# Altium integrated library Linear Technology Power Management Battery Management.IntLib: 626 symbols (part 37 of 56)
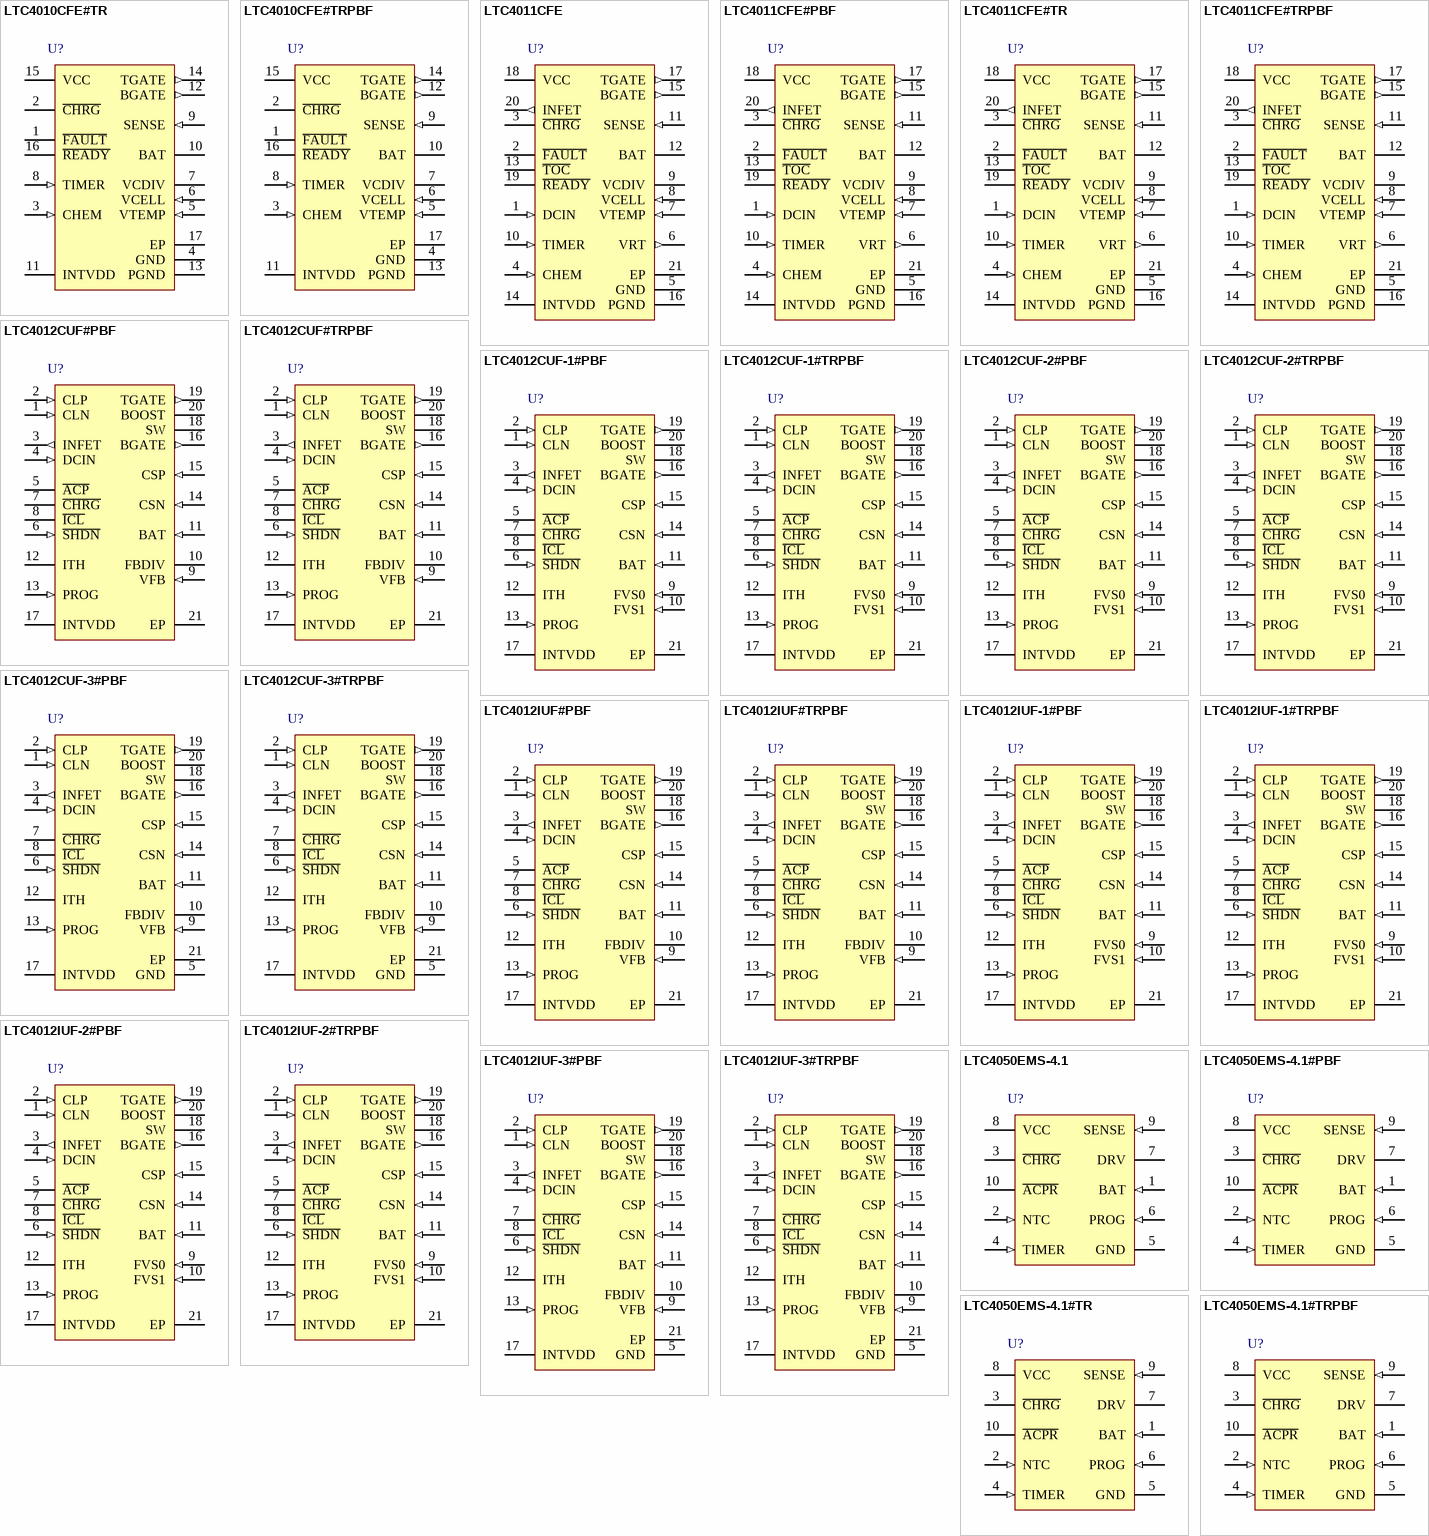
[diagram p58: symbols LTC4010CFE#TR to LTC4050EMS-4.1#TRPBF]

## LTC4012IUF#TRPBF
designator U?
High Efficiency, Multi-Chemistry Battery Charger with PowerPath Control, 6 to 28 V Vin, 20-pin QFN (UF-20), -40 to 125 degC, Pb-Free, Tape and Reel; Manufacturer: Linear Technology; PartNumber: LTC4012IUF#TRPBF; Battery Chemistry: Li-Ion, Li-Polymer, LiFePO4, NiCd, NiMH, Lead Acid; Charge Termination: Microcontroller; Float Voltage: Adj; Max Charge Current(A): 12; Number of Cells: 1 to 6 (Li), 2 to 18 (Ni); Type of Charger: Switching; Vin Max(V): 28; Vin Min(V): 6; DatasheetVersion: Rev. A; PackageVersion: Rev. A, 10/2010; PackageReference: UF20; PackageDescription: 20-Pin Plastic QFN, Body 4 x 4 mm, Pitch 0.5 mm; Supplier 1: Digi-Key; Supplier Part Number 1: LTC4012IUF#TRPBF-ND; Packing: Tape and Reel; RoHS: TRUE; Mounting Technology: Surface Mount; Code_JEDEC: MO-220; ComponentLink1Description: Manufacturer URL; ComponentLink1URL: http://www.linear.com/; ComponentLink2Description: Datasheet; ComponentLink2URL: http://cds.linear.com/docs/en/datasheet/4012fa.pdf; ComponentLink3Description: Package Specification; ComponentLink3URL: http://cds.linear.com/docs/en/packaging/QFN_20_05-08-1710.pdf
footprint LT-UF-20_N (QFN, 20-Leads, Body 4.1x4.1mm, Pitch 0.5mm, Thermal Pad 2.45x2.45mm, IPC Medium Density)
footprint LT-UF-20_L (QFN, 20-Leads, Body 4.1x4.1mm, Pitch 0.5mm, Thermal Pad 2.45x2.45mm, IPC High Density)
footprint LT-UF-20_M (QFN, 20-Leads, Body 4.1x4.1mm, Pitch 0.5mm, Thermal Pad 2.45x2.45mm, IPC Low Density)
pins: 1 CLN (in) "Adapter Input Current Limit Negative Input. The LTC4012 senses voltage on this pin to determine if less charge current should be sourced to limit total input current. The threshold is set 100mV below the CLP pin. An external (See Datasheet)", 2 CLP (in) "Adapter Input Current Limit Positive Input. The LTC4012 also draws power from this pin, including a small amount for some shutdown functions. Operating voltage range is GND to 28V.", 3 INFET (out) "PowerPath Control Output. This output drives the gate of a PMOS pass transistor connected between the DC input (DCIN) and the raw system supply rail (CLP) to maintain a forward voltage of 25mV when a DC input source is (See Datasheet)", 4 DCIN (in) "DC Sense Input. One of two voltage sense inputs to the internal PowerPath controller (the other input to the controller is CLP). This input is usually supplied from an input DC power source. Operating voltage ranges from GND (See Datasheet)", 5 ~{ACP} (hiz) "Active-Low AC Adapter Present Indicator Output. This open-drain output pulls to GND when adequate AC adapter (DCIN) voltage is present. This output should be left floating if not used.", 6 ~{SHDN} (in) "Active-low Shutdown Input. Driving S\H\D\N\ below 300mV unconditionally forces the LTC4012 into the shutdown state. This input has a 40kohm internal pulldown to GND. Operating voltage range is GND to INTVDD.", 7 ~{CHRG} (hiz) "Active-Low Charge Indicator Output. This open-drain output provides three levels of information about charge status using a strong pull-down, 25uA weak pull-down or high impedance. Refer to the Operation and Applications (See Datasheet)", 8 ~{ICL} (oc) "Active-Low Input Current Limit Indicator Output. This open-drain output pulls to GND when the charge current is reduced because of AC adapter input current limiting. This output should be left floating if not used.", 9 VFB (in) "Battery Voltage Feedback Input. An external resistor divider between FBDIV and GND with the center tap connected to VFB programs the charger output voltage. In constant voltage mode, this pin is nominally at 1.2085V. Refer (See Datasheet)", 10 FBDIV (oc) "Battery Voltage Feedback Resistor Divider Source. The LTC4012 connects this pin to BAT when charging is in progress. FBDIV is an opendrain PFET output to BAT with an operating voltage range of GND to BAT.", 11 BAT (in) "Battery Pack Connection. The LTC4012 uses the voltage on this pin to control PWM operation when charging. Operating voltage range is GND to CLN.", 12 ITH "PWM Control Voltage and Compensation Node. The LTC4012 develops a voltage on this pin to control cycle-by-cycle peak inductor current. An external R-C network connected to ITH provides PWM loop compensation. Refer to the (See Datasheet)", 13 PROG (in) "Charge Current Programming and Monitoring Pin. An external resistance connected between PROG and GND, along with the current sense and PWM input resistors, programs the maximum charge current. The voltage on this pin can (See Datasheet)", 14 CSN (in) "Charge Current Sense Negative Input. Place an external input resistor (RIN, Figure 1) between this pin and the negative side of the charge current sense resistor. Operating voltage ranges from (BAT - 50mV) to (BAT + 200mV).", 15 CSP (in) "Charge Current Sense Positive Input. Place an external input resistor (RIN, Figure 1) between this pin and the positive side of the charge current sense resistor. Operating voltage ranges from (BAT - 50mV) to (BAT + 200mV).", 16 BGATE (out) "External Synchronous NFET Gate Control Output. This output provides gate drive to an external NMOS power transistor switch used for synchronous rectification to increase efficiency in the step-down DC/DC converter. Operating (See Datasheet)", 17 INTVDD (power) "Internal 5V Regulator Output. This pin provides a means of bypassing the internal 5V regulator used to power the LTC4012 PWM FET drivers. This supply shuts down when the LTC4012 shuts down. Refer to the Application (See Datasheet)", 18 SW "PWM Switch Node. The LTC4012 uses the voltage on this pin as the source reference for its topside NFET (PWM switch) driver. Refer to the Applications Information section for additional PCB layout suggestions related to this (See Datasheet)", 19 TGATE (out) "External NFET Switch Gate Control Output. This output provides gate drive to an external NMOS power transistor switch used in the DC/DC converter. Operating voltage range is GND to (CLN + 5V).", 20 BOOST "TGATE Driver Supply Input. A bootstrap capacitor is returned to this pin from a charge network connected to SW and INTVDD. Refer to the Applications Information section for complete details on circuit topology and component (See Datasheet)", 21 EP (power) "Ground. The package paddle provides a single-point ground for the internal voltage reference and other critical LTC4012 circuits. It must be soldered to a suitable PCB copper ground pad for proper electrical operation and to (See Datasheet)"

## LTC4012IUF-1#PBF
designator U?
High Efficiency, Multi-Chemistry Battery Charger with PowerPath Control, 6 to 28 V Vin, 20-pin QFN (UF-20), -40 to 125 degC, Pb-Free; Manufacturer: Linear Technology; PartNumber: LTC4012IUF-1#PBF; Battery Chemistry: Li-Ion, Li-Polymer; Charge Termination: Microcontroller; Float Voltage: 4.1 V; Max Charge Current(A): 12; Number of Cells: 1 to 4 (Li); Type of Charger: Switching; Vin Max(V): 28; Vin Min(V): 6; DatasheetVersion: Rev. A; PackageVersion: Rev. A, 10/2010; PackageReference: UF20; PackageDescription: 20-Pin Plastic QFN, Body 4 x 4 mm, Pitch 0.5 mm; Supplier 1: Digi-Key; Supplier Part Number 1: LTC4012IUF-1#PBF-ND; Supplier 2: Newark; Supplier Part Number 2: 71R4688; RoHS: TRUE; Mounting Technology: Surface Mount; Code_JEDEC: MO-220; ComponentLink1Description: Manufacturer URL; ComponentLink1URL: http://www.linear.com/; ComponentLink2Description: Datasheet; ComponentLink2URL: http://cds.linear.com/docs/en/datasheet/4012fa.pdf; ComponentLink3Description: Package Specification; ComponentLink3URL: http://cds.linear.com/docs/en/packaging/QFN_20_05-08-1710.pdf
footprint LT-UF-20_N (QFN, 20-Leads, Body 4.1x4.1mm, Pitch 0.5mm, Thermal Pad 2.45x2.45mm, IPC Medium Density)
footprint LT-UF-20_L (QFN, 20-Leads, Body 4.1x4.1mm, Pitch 0.5mm, Thermal Pad 2.45x2.45mm, IPC High Density)
footprint LT-UF-20_M (QFN, 20-Leads, Body 4.1x4.1mm, Pitch 0.5mm, Thermal Pad 2.45x2.45mm, IPC Low Density)
pins: 1 CLN (in) "Adapter Input Current Limit Negative Input. The LTC4012 senses voltage on this pin to determine if less charge current should be sourced to limit total input current. The threshold is set 100mV below the CLP pin. An external (See Datasheet)", 2 CLP (in) "Adapter Input Current Limit Positive Input. The LTC4012 also draws power from this pin, including a small amount for some shutdown functions. Operating voltage range is GND to 28V.", 3 INFET (out) "PowerPath Control Output. This output drives the gate of a PMOS pass transistor connected between the DC input (DCIN) and the raw system supply rail (CLP) to maintain a forward voltage of 25mV when a DC input source is (See Datasheet)", 4 DCIN (in) "DC Sense Input. One of two voltage sense inputs to the internal PowerPath controller (the other input to the controller is CLP). This input is usually supplied from an input DC power source. Operating voltage ranges from GND (See Datasheet)", 5 ~{ACP} (hiz) "Active-Low AC Adapter Present Indicator Output. This open-drain output pulls to GND when adequate AC adapter (DCIN) voltage is present. This output should be left floating if not used.", 6 ~{SHDN} (in) "Active-low Shutdown Input. Driving S\H\D\N\ below 300mV unconditionally forces the LTC4012 into the shutdown state. This input has a 40kohm internal pulldown to GND. Operating voltage range is GND to INTVDD.", 7 ~{CHRG} (hiz) "Active-Low Charge Indicator Output. This open-drain output provides three levels of information about charge status using a strong pull-down, 25uA weak pull-down or high impedance. Refer to the Operation and Applications (See Datasheet)", 8 ~{ICL} (oc) "Active-Low Input Current Limit Indicator Output. This open-drain output pulls to GND when the charge current is reduced because of AC adapter input current limiting. This output should be left floating if not used.", 9 FVS0 (in) "Battery Voltage Select Input (LSB). This pin is one of two pins used on the LTC4012-1 or LTC4012-2 to select one of four preset battery voltages. Selection is done by connecting to either GND or INTVDD. Operating voltage (See Datasheet)", 10 FVS1 (in) "Battery Voltage Select Input (MSB). This pin is one of two pins used on the LTC4012-1 or LTC4012-2 to select one of four preset battery voltages. Selection is done by connecting to either GND or INTVDD. Operating voltage (See Datasheet)", 11 BAT (in) "Battery Pack Connection. The LTC4012 uses the voltage on this pin to control PWM operation when charging. Operating voltage range is GND to CLN.", 12 ITH "PWM Control Voltage and Compensation Node. The LTC4012 develops a voltage on this pin to control cycle-by-cycle peak inductor current. An external R-C network connected to ITH provides PWM loop compensation. Refer to the (See Datasheet)", 13 PROG (in) "Charge Current Programming and Monitoring Pin. An external resistance connected between PROG and GND, along with the current sense and PWM input resistors, programs the maximum charge current. The voltage on this pin can (See Datasheet)", 14 CSN (in) "Charge Current Sense Negative Input. Place an external input resistor (RIN, Figure 1) between this pin and the negative side of the charge current sense resistor. Operating voltage ranges from (BAT - 50mV) to (BAT + 200mV).", 15 CSP (in) "Charge Current Sense Positive Input. Place an external input resistor (RIN, Figure 1) between this pin and the positive side of the charge current sense resistor. Operating voltage ranges from (BAT - 50mV) to (BAT + 200mV).", 16 BGATE (out) "External Synchronous NFET Gate Control Output. This output provides gate drive to an external NMOS power transistor switch used for synchronous rectification to increase efficiency in the step-down DC/DC converter. Operating (See Datasheet)", 17 INTVDD (power) "Internal 5V Regulator Output. This pin provides a means of bypassing the internal 5V regulator used to power the LTC4012 PWM FET drivers. This supply shuts down when the LTC4012 shuts down. Refer to the Application (See Datasheet)", 18 SW "PWM Switch Node. The LTC4012 uses the voltage on this pin as the source reference for its topside NFET (PWM switch) driver. Refer to the Applications Information section for additional PCB layout suggestions related to this (See Datasheet)", 19 TGATE (out) "External NFET Switch Gate Control Output. This output provides gate drive to an external NMOS power transistor switch used in the DC/DC converter. Operating voltage range is GND to (CLN + 5V).", 20 BOOST "TGATE Driver Supply Input. A bootstrap capacitor is returned to this pin from a charge network connected to SW and INTVDD. Refer to the Applications Information section for complete details on circuit topology and component (See Datasheet)", 21 EP (power) "Ground. The package paddle provides a single-point ground for the internal voltage reference and other critical LTC4012 circuits. It must be soldered to a suitable PCB copper ground pad for proper electrical operation and to (See Datasheet)"

## LTC4012IUF-1#TRPBF
designator U?
High Efficiency, Multi-Chemistry Battery Charger with PowerPath Control, 6 to 28 V Vin, 20-pin QFN (UF-20), -40 to 125 degC, Pb-Free, Tape and Reel; Manufacturer: Linear Technology; PartNumber: LTC4012IUF-1#TRPBF; Battery Chemistry: Li-Ion, Li-Polymer; Charge Termination: Microcontroller; Float Voltage: 4.1 V; Max Charge Current(A): 12; Number of Cells: 1 to 4 (Li); Type of Charger: Switching; Vin Max(V): 28; Vin Min(V): 6; DatasheetVersion: Rev. A; PackageVersion: Rev. A, 10/2010; PackageReference: UF20; PackageDescription: 20-Pin Plastic QFN, Body 4 x 4 mm, Pitch 0.5 mm; Supplier 1: Digi-Key; Supplier Part Number 1: LTC4012IUF-1#TRPBF-ND; Packing: Tape and Reel; RoHS: TRUE; Mounting Technology: Surface Mount; Code_JEDEC: MO-220; ComponentLink1Description: Manufacturer URL; ComponentLink1URL: http://www.linear.com/; ComponentLink2Description: Datasheet; ComponentLink2URL: http://cds.linear.com/docs/en/datasheet/4012fa.pdf; ComponentLink3Description: Package Specification; ComponentLink3URL: http://cds.linear.com/docs/en/packaging/QFN_20_05-08-1710.pdf
footprint LT-UF-20_N (QFN, 20-Leads, Body 4.1x4.1mm, Pitch 0.5mm, Thermal Pad 2.45x2.45mm, IPC Medium Density)
footprint LT-UF-20_L (QFN, 20-Leads, Body 4.1x4.1mm, Pitch 0.5mm, Thermal Pad 2.45x2.45mm, IPC High Density)
footprint LT-UF-20_M (QFN, 20-Leads, Body 4.1x4.1mm, Pitch 0.5mm, Thermal Pad 2.45x2.45mm, IPC Low Density)
pins: 1 CLN (in) "Adapter Input Current Limit Negative Input. The LTC4012 senses voltage on this pin to determine if less charge current should be sourced to limit total input current. The threshold is set 100mV below the CLP pin. An external (See Datasheet)", 2 CLP (in) "Adapter Input Current Limit Positive Input. The LTC4012 also draws power from this pin, including a small amount for some shutdown functions. Operating voltage range is GND to 28V.", 3 INFET (out) "PowerPath Control Output. This output drives the gate of a PMOS pass transistor connected between the DC input (DCIN) and the raw system supply rail (CLP) to maintain a forward voltage of 25mV when a DC input source is (See Datasheet)", 4 DCIN (in) "DC Sense Input. One of two voltage sense inputs to the internal PowerPath controller (the other input to the controller is CLP). This input is usually supplied from an input DC power source. Operating voltage ranges from GND (See Datasheet)", 5 ~{ACP} (hiz) "Active-Low AC Adapter Present Indicator Output. This open-drain output pulls to GND when adequate AC adapter (DCIN) voltage is present. This output should be left floating if not used.", 6 ~{SHDN} (in) "Active-low Shutdown Input. Driving S\H\D\N\ below 300mV unconditionally forces the LTC4012 into the shutdown state. This input has a 40kohm internal pulldown to GND. Operating voltage range is GND to INTVDD.", 7 ~{CHRG} (hiz) "Active-Low Charge Indicator Output. This open-drain output provides three levels of information about charge status using a strong pull-down, 25uA weak pull-down or high impedance. Refer to the Operation and Applications (See Datasheet)", 8 ~{ICL} (oc) "Active-Low Input Current Limit Indicator Output. This open-drain output pulls to GND when the charge current is reduced because of AC adapter input current limiting. This output should be left floating if not used.", 9 FVS0 (in) "Battery Voltage Select Input (LSB). This pin is one of two pins used on the LTC4012-1 or LTC4012-2 to select one of four preset battery voltages. Selection is done by connecting to either GND or INTVDD. Operating voltage (See Datasheet)", 10 FVS1 (in) "Battery Voltage Select Input (MSB). This pin is one of two pins used on the LTC4012-1 or LTC4012-2 to select one of four preset battery voltages. Selection is done by connecting to either GND or INTVDD. Operating voltage (See Datasheet)", 11 BAT (in) "Battery Pack Connection. The LTC4012 uses the voltage on this pin to control PWM operation when charging. Operating voltage range is GND to CLN.", 12 ITH "PWM Control Voltage and Compensation Node. The LTC4012 develops a voltage on this pin to control cycle-by-cycle peak inductor current. An external R-C network connected to ITH provides PWM loop compensation. Refer to the (See Datasheet)", 13 PROG (in) "Charge Current Programming and Monitoring Pin. An external resistance connected between PROG and GND, along with the current sense and PWM input resistors, programs the maximum charge current. The voltage on this pin can (See Datasheet)", 14 CSN (in) "Charge Current Sense Negative Input. Place an external input resistor (RIN, Figure 1) between this pin and the negative side of the charge current sense resistor. Operating voltage ranges from (BAT - 50mV) to (BAT + 200mV).", 15 CSP (in) "Charge Current Sense Positive Input. Place an external input resistor (RIN, Figure 1) between this pin and the positive side of the charge current sense resistor. Operating voltage ranges from (BAT - 50mV) to (BAT + 200mV).", 16 BGATE (out) "External Synchronous NFET Gate Control Output. This output provides gate drive to an external NMOS power transistor switch used for synchronous rectification to increase efficiency in the step-down DC/DC converter. Operating (See Datasheet)", 17 INTVDD (power) "Internal 5V Regulator Output. This pin provides a means of bypassing the internal 5V regulator used to power the LTC4012 PWM FET drivers. This supply shuts down when the LTC4012 shuts down. Refer to the Application (See Datasheet)", 18 SW "PWM Switch Node. The LTC4012 uses the voltage on this pin as the source reference for its topside NFET (PWM switch) driver. Refer to the Applications Information section for additional PCB layout suggestions related to this (See Datasheet)", 19 TGATE (out) "External NFET Switch Gate Control Output. This output provides gate drive to an external NMOS power transistor switch used in the DC/DC converter. Operating voltage range is GND to (CLN + 5V).", 20 BOOST "TGATE Driver Supply Input. A bootstrap capacitor is returned to this pin from a charge network connected to SW and INTVDD. Refer to the Applications Information section for complete details on circuit topology and component (See Datasheet)", 21 EP (power) "Ground. The package paddle provides a single-point ground for the internal voltage reference and other critical LTC4012 circuits. It must be soldered to a suitable PCB copper ground pad for proper electrical operation and to (See Datasheet)"

## LTC4012IUF-2#PBF
designator U?
High Efficiency, Multi-Chemistry Battery Charger with PowerPath Control, 6 to 28 V Vin, 20-pin QFN (UF-20), -40 to 125 degC, Pb-Free; Manufacturer: Linear Technology; PartNumber: LTC4012IUF-2#PBF; Battery Chemistry: Li-Ion, Li-Polymer; Charge Termination: Microcontroller; Float Voltage: 4.2 V; Max Charge Current(A): 12; Number of Cells: 1 to 4 (Li); Type of Charger: Switching; Vin Max(V): 28; Vin Min(V): 6; DatasheetVersion: Rev. A; PackageVersion: Rev. A, 10/2010; PackageReference: UF20; PackageDescription: 20-Pin Plastic QFN, Body 4 x 4 mm, Pitch 0.5 mm; Supplier 1: Digi-Key; Supplier Part Number 1: LTC4012IUF-2#PBF-ND; Supplier 2: Newark; Supplier Part Number 2: 71R4690; RoHS: TRUE; Mounting Technology: Surface Mount; Code_JEDEC: MO-220; ComponentLink1Description: Manufacturer URL; ComponentLink1URL: http://www.linear.com/; ComponentLink2Description: Datasheet; ComponentLink2URL: http://cds.linear.com/docs/en/datasheet/4012fa.pdf; ComponentLink3Description: Package Specification; ComponentLink3URL: http://cds.linear.com/docs/en/packaging/QFN_20_05-08-1710.pdf
footprint LT-UF-20_N (QFN, 20-Leads, Body 4.1x4.1mm, Pitch 0.5mm, Thermal Pad 2.45x2.45mm, IPC Medium Density)
footprint LT-UF-20_L (QFN, 20-Leads, Body 4.1x4.1mm, Pitch 0.5mm, Thermal Pad 2.45x2.45mm, IPC High Density)
footprint LT-UF-20_M (QFN, 20-Leads, Body 4.1x4.1mm, Pitch 0.5mm, Thermal Pad 2.45x2.45mm, IPC Low Density)
pins: 1 CLN (in) "Adapter Input Current Limit Negative Input. The LTC4012 senses voltage on this pin to determine if less charge current should be sourced to limit total input current. The threshold is set 100mV below the CLP pin. An external (See Datasheet)", 2 CLP (in) "Adapter Input Current Limit Positive Input. The LTC4012 also draws power from this pin, including a small amount for some shutdown functions. Operating voltage range is GND to 28V.", 3 INFET (out) "PowerPath Control Output. This output drives the gate of a PMOS pass transistor connected between the DC input (DCIN) and the raw system supply rail (CLP) to maintain a forward voltage of 25mV when a DC input source is (See Datasheet)", 4 DCIN (in) "DC Sense Input. One of two voltage sense inputs to the internal PowerPath controller (the other input to the controller is CLP). This input is usually supplied from an input DC power source. Operating voltage ranges from GND (See Datasheet)", 5 ~{ACP} (hiz) "Active-Low AC Adapter Present Indicator Output. This open-drain output pulls to GND when adequate AC adapter (DCIN) voltage is present. This output should be left floating if not used.", 6 ~{SHDN} (in) "Active-low Shutdown Input. Driving S\H\D\N\ below 300mV unconditionally forces the LTC4012 into the shutdown state. This input has a 40kohm internal pulldown to GND. Operating voltage range is GND to INTVDD.", 7 ~{CHRG} (hiz) "Active-Low Charge Indicator Output. This open-drain output provides three levels of information about charge status using a strong pull-down, 25uA weak pull-down or high impedance. Refer to the Operation and Applications (See Datasheet)", 8 ~{ICL} (oc) "Active-Low Input Current Limit Indicator Output. This open-drain output pulls to GND when the charge current is reduced because of AC adapter input current limiting. This output should be left floating if not used.", 9 FVS0 (in) "Battery Voltage Select Input (LSB). This pin is one of two pins used on the LTC4012-1 or LTC4012-2 to select one of four preset battery voltages. Selection is done by connecting to either GND or INTVDD. Operating voltage (See Datasheet)", 10 FVS1 (in) "Battery Voltage Select Input (MSB). This pin is one of two pins used on the LTC4012-1 or LTC4012-2 to select one of four preset battery voltages. Selection is done by connecting to either GND or INTVDD. Operating voltage (See Datasheet)", 11 BAT (in) "Battery Pack Connection. The LTC4012 uses the voltage on this pin to control PWM operation when charging. Operating voltage range is GND to CLN.", 12 ITH "PWM Control Voltage and Compensation Node. The LTC4012 develops a voltage on this pin to control cycle-by-cycle peak inductor current. An external R-C network connected to ITH provides PWM loop compensation. Refer to the (See Datasheet)", 13 PROG (in) "Charge Current Programming and Monitoring Pin. An external resistance connected between PROG and GND, along with the current sense and PWM input resistors, programs the maximum charge current. The voltage on this pin can (See Datasheet)", 14 CSN (in) "Charge Current Sense Negative Input. Place an external input resistor (RIN, Figure 1) between this pin and the negative side of the charge current sense resistor. Operating voltage ranges from (BAT - 50mV) to (BAT + 200mV).", 15 CSP (in) "Charge Current Sense Positive Input. Place an external input resistor (RIN, Figure 1) between this pin and the positive side of the charge current sense resistor. Operating voltage ranges from (BAT - 50mV) to (BAT + 200mV).", 16 BGATE (out) "External Synchronous NFET Gate Control Output. This output provides gate drive to an external NMOS power transistor switch used for synchronous rectification to increase efficiency in the step-down DC/DC converter. Operating (See Datasheet)", 17 INTVDD (power) "Internal 5V Regulator Output. This pin provides a means of bypassing the internal 5V regulator used to power the LTC4012 PWM FET drivers. This supply shuts down when the LTC4012 shuts down. Refer to the Application (See Datasheet)", 18 SW "PWM Switch Node. The LTC4012 uses the voltage on this pin as the source reference for its topside NFET (PWM switch) driver. Refer to the Applications Information section for additional PCB layout suggestions related to this (See Datasheet)", 19 TGATE (out) "External NFET Switch Gate Control Output. This output provides gate drive to an external NMOS power transistor switch used in the DC/DC converter. Operating voltage range is GND to (CLN + 5V).", 20 BOOST "TGATE Driver Supply Input. A bootstrap capacitor is returned to this pin from a charge network connected to SW and INTVDD. Refer to the Applications Information section for complete details on circuit topology and component (See Datasheet)", 21 EP (power) "Ground. The package paddle provides a single-point ground for the internal voltage reference and other critical LTC4012 circuits. It must be soldered to a suitable PCB copper ground pad for proper electrical operation and to (See Datasheet)"

## LTC4012IUF-2#TRPBF
designator U?
High Efficiency, Multi-Chemistry Battery Charger with PowerPath Control, 6 to 28 V Vin, 20-pin QFN (UF-20), -40 to 125 degC, Pb-Free, Tape and Reel; Manufacturer: Linear Technology; PartNumber: LTC4012IUF-2#TRPBF; Battery Chemistry: Li-Ion, Li-Polymer; Charge Termination: Microcontroller; Float Voltage: 4.2 V; Max Charge Current(A): 12; Number of Cells: 1 to 4 (Li); Type of Charger: Switching; Vin Max(V): 28; Vin Min(V): 6; DatasheetVersion: Rev. A; PackageVersion: Rev. A, 10/2010; PackageReference: UF20; PackageDescription: 20-Pin Plastic QFN, Body 4 x 4 mm, Pitch 0.5 mm; Supplier 1: Digi-Key; Supplier Part Number 1: LTC4012IUF-2#TRPBF-ND; Supplier 2: Newark; Supplier Part Number 2: 71R4691; Packing: Tape and Reel; RoHS: TRUE; Mounting Technology: Surface Mount; Code_JEDEC: MO-220; ComponentLink1Description: Manufacturer URL; ComponentLink1URL: http://www.linear.com/; ComponentLink2Description: Datasheet; ComponentLink2URL: http://cds.linear.com/docs/en/datasheet/4012fa.pdf; ComponentLink3Description: Package Specification; ComponentLink3URL: http://cds.linear.com/docs/en/packaging/QFN_20_05-08-1710.pdf
footprint LT-UF-20_N (QFN, 20-Leads, Body 4.1x4.1mm, Pitch 0.5mm, Thermal Pad 2.45x2.45mm, IPC Medium Density)
footprint LT-UF-20_L (QFN, 20-Leads, Body 4.1x4.1mm, Pitch 0.5mm, Thermal Pad 2.45x2.45mm, IPC High Density)
footprint LT-UF-20_M (QFN, 20-Leads, Body 4.1x4.1mm, Pitch 0.5mm, Thermal Pad 2.45x2.45mm, IPC Low Density)
pins: 1 CLN (in) "Adapter Input Current Limit Negative Input. The LTC4012 senses voltage on this pin to determine if less charge current should be sourced to limit total input current. The threshold is set 100mV below the CLP pin. An external (See Datasheet)", 2 CLP (in) "Adapter Input Current Limit Positive Input. The LTC4012 also draws power from this pin, including a small amount for some shutdown functions. Operating voltage range is GND to 28V.", 3 INFET (out) "PowerPath Control Output. This output drives the gate of a PMOS pass transistor connected between the DC input (DCIN) and the raw system supply rail (CLP) to maintain a forward voltage of 25mV when a DC input source is (See Datasheet)", 4 DCIN (in) "DC Sense Input. One of two voltage sense inputs to the internal PowerPath controller (the other input to the controller is CLP). This input is usually supplied from an input DC power source. Operating voltage ranges from GND (See Datasheet)", 5 ~{ACP} (hiz) "Active-Low AC Adapter Present Indicator Output. This open-drain output pulls to GND when adequate AC adapter (DCIN) voltage is present. This output should be left floating if not used.", 6 ~{SHDN} (in) "Active-low Shutdown Input. Driving S\H\D\N\ below 300mV unconditionally forces the LTC4012 into the shutdown state. This input has a 40kohm internal pulldown to GND. Operating voltage range is GND to INTVDD.", 7 ~{CHRG} (hiz) "Active-Low Charge Indicator Output. This open-drain output provides three levels of information about charge status using a strong pull-down, 25uA weak pull-down or high impedance. Refer to the Operation and Applications (See Datasheet)", 8 ~{ICL} (oc) "Active-Low Input Current Limit Indicator Output. This open-drain output pulls to GND when the charge current is reduced because of AC adapter input current limiting. This output should be left floating if not used.", 9 FVS0 (in) "Battery Voltage Select Input (LSB). This pin is one of two pins used on the LTC4012-1 or LTC4012-2 to select one of four preset battery voltages. Selection is done by connecting to either GND or INTVDD. Operating voltage (See Datasheet)", 10 FVS1 (in) "Battery Voltage Select Input (MSB). This pin is one of two pins used on the LTC4012-1 or LTC4012-2 to select one of four preset battery voltages. Selection is done by connecting to either GND or INTVDD. Operating voltage (See Datasheet)", 11 BAT (in) "Battery Pack Connection. The LTC4012 uses the voltage on this pin to control PWM operation when charging. Operating voltage range is GND to CLN.", 12 ITH "PWM Control Voltage and Compensation Node. The LTC4012 develops a voltage on this pin to control cycle-by-cycle peak inductor current. An external R-C network connected to ITH provides PWM loop compensation. Refer to the (See Datasheet)", 13 PROG (in) "Charge Current Programming and Monitoring Pin. An external resistance connected between PROG and GND, along with the current sense and PWM input resistors, programs the maximum charge current. The voltage on this pin can (See Datasheet)", 14 CSN (in) "Charge Current Sense Negative Input. Place an external input resistor (RIN, Figure 1) between this pin and the negative side of the charge current sense resistor. Operating voltage ranges from (BAT - 50mV) to (BAT + 200mV).", 15 CSP (in) "Charge Current Sense Positive Input. Place an external input resistor (RIN, Figure 1) between this pin and the positive side of the charge current sense resistor. Operating voltage ranges from (BAT - 50mV) to (BAT + 200mV).", 16 BGATE (out) "External Synchronous NFET Gate Control Output. This output provides gate drive to an external NMOS power transistor switch used for synchronous rectification to increase efficiency in the step-down DC/DC converter. Operating (See Datasheet)", 17 INTVDD (power) "Internal 5V Regulator Output. This pin provides a means of bypassing the internal 5V regulator used to power the LTC4012 PWM FET drivers. This supply shuts down when the LTC4012 shuts down. Refer to the Application (See Datasheet)", 18 SW "PWM Switch Node. The LTC4012 uses the voltage on this pin as the source reference for its topside NFET (PWM switch) driver. Refer to the Applications Information section for additional PCB layout suggestions related to this (See Datasheet)", 19 TGATE (out) "External NFET Switch Gate Control Output. This output provides gate drive to an external NMOS power transistor switch used in the DC/DC converter. Operating voltage range is GND to (CLN + 5V).", 20 BOOST "TGATE Driver Supply Input. A bootstrap capacitor is returned to this pin from a charge network connected to SW and INTVDD. Refer to the Applications Information section for complete details on circuit topology and component (See Datasheet)", 21 EP (power) "Ground. The package paddle provides a single-point ground for the internal voltage reference and other critical LTC4012 circuits. It must be soldered to a suitable PCB copper ground pad for proper electrical operation and to (See Datasheet)"

## LTC4012IUF-3#PBF
designator U?
High Efficiency, Multi-Chemistry Battery Charger with PowerPath Control, 6 to 28 V Vin, 20-pin QFN (UF-20), -40 to 125 degC, Pb-Free; Manufacturer: Linear Technology; PartNumber: LTC4012IUF-3#PBF; Battery Chemistry: Li-Ion, Li-Polymer, LiFePO4, NiCd, NiMH, Lead Acid; Charge Termination: Microcontroller; Float Voltage: 4.2 V,4.1 V; Max Charge Current(A): 12; Number of Cells: 1 to 6 (Li), 4 to 18 (Ni); Type of Charger: Switching; Vin Max(V): 28; Vin Min(V): 6; DatasheetVersion: Rev. B; PackageVersion: Rev. A, 10/2010; PackageReference: UF20; PackageDescription: 20-Pin Plastic QFN, Body 4 x 4 mm, Pitch 0.5 mm; Supplier 1: Digi-Key; Supplier Part Number 1: LTC4012IUF-3#PBF-ND; Supplier 2: Farnell; Supplier Part Number 2: 1799839; Supplier 3: Newark; Supplier Part Number 3: 71R4692; RoHS: TRUE; Mounting Technology: Surface Mount; Code_JEDEC: MO-220; ComponentLink1Description: Manufacturer URL; ComponentLink1URL: http://www.linear.com/; ComponentLink2Description: Datasheet; ComponentLink2URL: http://cds.linear.com/docs/en/datasheet/40123fb.pdf; ComponentLink3Description: Package Specification; ComponentLink3URL: http://cds.linear.com/docs/en/packaging/QFN_20_05-08-1710.pdf
footprint LT-UF-20_N (QFN, 20-Leads, Body 4.1x4.1mm, Pitch 0.5mm, Thermal Pad 2.45x2.45mm, IPC Medium Density)
footprint LT-UF-20_L (QFN, 20-Leads, Body 4.1x4.1mm, Pitch 0.5mm, Thermal Pad 2.45x2.45mm, IPC High Density)
footprint LT-UF-20_M (QFN, 20-Leads, Body 4.1x4.1mm, Pitch 0.5mm, Thermal Pad 2.45x2.45mm, IPC Low Density)
pins: 1 CLN (in) "Adapter Input Current Limit Negative Input. The LTC4012-3 senses voltage on this pin to determine if less charge current should be sourced to limit total input current. The threshold is set 100mV below the CLP pin. An (See Datasheet)", 2 CLP (in) "Adapter Input Current Limit Positive Input. The LTC4012-3 also draws power from this pin, including a small amount for some shutdown functions. Operating voltage range is GND to 28V.", 3 INFET (out) "PowerPath Control Output. This output drives the gate of a PMOS pass transistor connected between the DC input (DCIN) and the raw system supply rail (CLP) to maintain a forward voltage of 25mV when a DC input source is (See Datasheet)", 4 DCIN (in) "DC Sense Input. One of two voltage sense inputs to the internal PowerPath controller (the other input to the controller is CLP). This input is usually supplied from an input DC power source. Operating voltage ranges from GND (See Datasheet)", 5 GND (power) "Ground. Internally connected to the Exposed Pad (package paddle).", 6 ~{SHDN} (in) "Active-Low Shutdown Input. Driving S\H\D\N\ below 300mV unconditionally forces the LTC4012-3 into the shutdown state. This input has a 40kohm internal pull-down to GND. Operating voltage range is GND to INTVDD.", 7 ~{CHRG} (hiz) "Active-Low Charge Indicator Output. This open-drain output provides three levels of information about charge status using a strong pull-down, 25uA weak pull-down or high impedance. Refer to the Operation and Applications (See Datasheet)", 8 ~{ICL} (oc) "Active-Low Input Current Limit Indicator Output. This open-drain output pulls to GND when the charge current is reduced because of AC adapter input current limiting. This output should be left floating if not used.", 9 VFB (in) "Battery Voltage Feedback Input. An external resistor divider between FBDIV and GND with the center tap connected to VFB programs the charger output voltage. In constant voltage mode, this pin is nominally at 1.2085V. Refer (See Datasheet)", 10 FBDIV (oc) "Battery Voltage Feedback Resistor Divider Source. The LTC4012-3 connects this pin to BAT when charging is in progress. FBDIV is an open-drain PFET output to BAT with an operating voltage range of GND to BAT.", 11 BAT (in) "Battery Pack Connection. The LTC4012-3 uses the voltage on this pin to control PWM operation when charging. Operating voltage range is GND to CLN.", 12 ITH "PWM Control Voltage and Compensation Node. The LTC4012-3 develops a voltage on this pin to control cycle-by-cycle peak inductor current. An external R-C network connected to ITH provides PWM loop compensation. Refer to the (See Datasheet)", 13 PROG (in) "Charge Current Programming and Monitoring Pin. An external resistance connected between PROG and GND, along with the current sense and PWM input resistors, programs the maximum charge current. The voltage on this pin can (See Datasheet)", 14 CSN (in) "Charge Current Sense Negative Input. Place an external input resistor (RIN, Figure 1) between this pin and the negative side of the charge current sense resistor. Operating voltage ranges from (BAT - 50mV) to (BAT + 200mV).", 15 CSP (in) "Charge Current Sense Positive Input. Place an external input resistor (RIN, Figure 1) between this pin and the positive side of the charge current sense resistor. Operating voltage ranges from (BAT - 50mV) to (BAT + 200mV).", 16 BGATE (out) "External Synchronous NFET Gate Control Output. This output provides gate drive to an external NMOS power transistor switch used for synchronous rectification to increase efficiency in the step-down DC/DC converter. Operating (See Datasheet)", 17 INTVDD (power) "Internal 5V Regulator Output. This pin provides a means of bypassing the internal 5V regulator used to power the LTC4012-3 PWM FET drivers. This supply shuts down when the LTC4012-3 shuts down. Refer to the Application (See Datasheet)", 18 SW "PWM Switch Node. The LTC4012-3 uses the voltage on this pin as the source reference for its topside NFET (PWM switch) driver. Refer to the Applications Information section for additional PCB layout suggestions related to (See Datasheet)", 19 TGATE (out) "External NFET Switch Gate Control Output. This output provides gate drive to an external NMOS power transistor switch used in the DC/DC converter. Operating voltage range is GND to (CLN + 5V).", 20 BOOST "TGATE Driver Supply Input. A bootstrap capacitor is returned to this pin from a charge network connected to SW and INTVDD. Refer to the Applications Information section for complete details on circuit topology and component (See Datasheet)", 21 EP (power) "Ground. The package paddle provides a single-point ground for the internal voltage reference and other critical LTC4012-3 circuits. It should be soldered to a suitable PCB copper ground pad for proper electrical operation (See Datasheet)"

## LTC4012IUF-3#TRPBF
designator U?
High Efficiency, Multi-Chemistry Battery Charger with PowerPath Control, 6 to 28 V Vin, 20-pin QFN (UF-20), -40 to 125 degC, Pb-Free, Tape and Reel; Manufacturer: Linear Technology; PartNumber: LTC4012IUF-3#TRPBF; Battery Chemistry: Li-Ion, Li-Polymer, LiFePO4, NiCd, NiMH, Lead Acid; Charge Termination: Microcontroller; Float Voltage: 4.2 V,4.1 V; Max Charge Current(A): 12; Number of Cells: 1 to 6 (Li), 4 to 18 (Ni); Type of Charger: Switching; Vin Max(V): 28; Vin Min(V): 6; DatasheetVersion: Rev. B; PackageVersion: Rev. A, 10/2010; PackageReference: UF20; PackageDescription: 20-Pin Plastic QFN, Body 4 x 4 mm, Pitch 0.5 mm; Supplier 1: Digi-Key; Supplier Part Number 1: LTC4012IUF-3#TRPBF-ND; Packing: Tape and Reel; RoHS: TRUE; Mounting Technology: Surface Mount; Code_JEDEC: MO-220; ComponentLink1Description: Manufacturer URL; ComponentLink1URL: http://www.linear.com/; ComponentLink2Description: Datasheet; ComponentLink2URL: http://cds.linear.com/docs/en/datasheet/40123fb.pdf; ComponentLink3Description: Package Specification; ComponentLink3URL: http://cds.linear.com/docs/en/packaging/QFN_20_05-08-1710.pdf
footprint LT-UF-20_N (QFN, 20-Leads, Body 4.1x4.1mm, Pitch 0.5mm, Thermal Pad 2.45x2.45mm, IPC Medium Density)
footprint LT-UF-20_L (QFN, 20-Leads, Body 4.1x4.1mm, Pitch 0.5mm, Thermal Pad 2.45x2.45mm, IPC High Density)
footprint LT-UF-20_M (QFN, 20-Leads, Body 4.1x4.1mm, Pitch 0.5mm, Thermal Pad 2.45x2.45mm, IPC Low Density)
pins: 1 CLN (in) "Adapter Input Current Limit Negative Input. The LTC4012-3 senses voltage on this pin to determine if less charge current should be sourced to limit total input current. The threshold is set 100mV below the CLP pin. An (See Datasheet)", 2 CLP (in) "Adapter Input Current Limit Positive Input. The LTC4012-3 also draws power from this pin, including a small amount for some shutdown functions. Operating voltage range is GND to 28V.", 3 INFET (out) "PowerPath Control Output. This output drives the gate of a PMOS pass transistor connected between the DC input (DCIN) and the raw system supply rail (CLP) to maintain a forward voltage of 25mV when a DC input source is (See Datasheet)", 4 DCIN (in) "DC Sense Input. One of two voltage sense inputs to the internal PowerPath controller (the other input to the controller is CLP). This input is usually supplied from an input DC power source. Operating voltage ranges from GND (See Datasheet)", 5 GND (power) "Ground. Internally connected to the Exposed Pad (package paddle).", 6 ~{SHDN} (in) "Active-Low Shutdown Input. Driving S\H\D\N\ below 300mV unconditionally forces the LTC4012-3 into the shutdown state. This input has a 40kohm internal pull-down to GND. Operating voltage range is GND to INTVDD.", 7 ~{CHRG} (hiz) "Active-Low Charge Indicator Output. This open-drain output provides three levels of information about charge status using a strong pull-down, 25uA weak pull-down or high impedance. Refer to the Operation and Applications (See Datasheet)", 8 ~{ICL} (oc) "Active-Low Input Current Limit Indicator Output. This open-drain output pulls to GND when the charge current is reduced because of AC adapter input current limiting. This output should be left floating if not used.", 9 VFB (in) "Battery Voltage Feedback Input. An external resistor divider between FBDIV and GND with the center tap connected to VFB programs the charger output voltage. In constant voltage mode, this pin is nominally at 1.2085V. Refer (See Datasheet)", 10 FBDIV (oc) "Battery Voltage Feedback Resistor Divider Source. The LTC4012-3 connects this pin to BAT when charging is in progress. FBDIV is an open-drain PFET output to BAT with an operating voltage range of GND to BAT.", 11 BAT (in) "Battery Pack Connection. The LTC4012-3 uses the voltage on this pin to control PWM operation when charging. Operating voltage range is GND to CLN.", 12 ITH "PWM Control Voltage and Compensation Node. The LTC4012-3 develops a voltage on this pin to control cycle-by-cycle peak inductor current. An external R-C network connected to ITH provides PWM loop compensation. Refer to the (See Datasheet)", 13 PROG (in) "Charge Current Programming and Monitoring Pin. An external resistance connected between PROG and GND, along with the current sense and PWM input resistors, programs the maximum charge current. The voltage on this pin can (See Datasheet)", 14 CSN (in) "Charge Current Sense Negative Input. Place an external input resistor (RIN, Figure 1) between this pin and the negative side of the charge current sense resistor. Operating voltage ranges from (BAT - 50mV) to (BAT + 200mV).", 15 CSP (in) "Charge Current Sense Positive Input. Place an external input resistor (RIN, Figure 1) between this pin and the positive side of the charge current sense resistor. Operating voltage ranges from (BAT - 50mV) to (BAT + 200mV).", 16 BGATE (out) "External Synchronous NFET Gate Control Output. This output provides gate drive to an external NMOS power transistor switch used for synchronous rectification to increase efficiency in the step-down DC/DC converter. Operating (See Datasheet)", 17 INTVDD (power) "Internal 5V Regulator Output. This pin provides a means of bypassing the internal 5V regulator used to power the LTC4012-3 PWM FET drivers. This supply shuts down when the LTC4012-3 shuts down. Refer to the Application (See Datasheet)", 18 SW "PWM Switch Node. The LTC4012-3 uses the voltage on this pin as the source reference for its topside NFET (PWM switch) driver. Refer to the Applications Information section for additional PCB layout suggestions related to (See Datasheet)", 19 TGATE (out) "External NFET Switch Gate Control Output. This output provides gate drive to an external NMOS power transistor switch used in the DC/DC converter. Operating voltage range is GND to (CLN + 5V).", 20 BOOST "TGATE Driver Supply Input. A bootstrap capacitor is returned to this pin from a charge network connected to SW and INTVDD. Refer to the Applications Information section for complete details on circuit topology and component (See Datasheet)", 21 EP (power) "Ground. The package paddle provides a single-point ground for the internal voltage reference and other critical LTC4012-3 circuits. It should be soldered to a suitable PCB copper ground pad for proper electrical operation (See Datasheet)"

## LTC4050EMS-4.1
designator U?
Lithium-Ion Linear Battery Charger with Thermistor Interface, 4.5 to 10 V Vin, 10-pin SOP (MS-10), -40 to 85 degC; Manufacturer: Linear Technology; PartNumber: LTC4050EMS-4.1; Battery Chemistry: Li-Ion, Li-Polymer; Charge Termination: On-board timer; Float Voltage: 4.1 V; Number of Cells: 1; Vin Max(V): 10; Vin Min(V): 4.5; PackageVersion: Rev. E, 06/2010; PackageReference: MS-10; PackageDescription: 10-Pin Plastic MSOP, Body 3 x 3 mm, Pitch 0.5 mm; Supplier 1: Digi-Key; Supplier Part Number 1: LTC4050EMS-4.1-ND; RoHS: FALSE; Type of Charger: Linear; Mounting Technology: Surface Mount; ComponentLink1Description: Manufacturer URL; ComponentLink1URL: http://www.linear.com/; ComponentLink2Description: Datasheet; ComponentLink2URL: http://cds.linear.com/docs/en/datasheet/4050f.pdf; ComponentLink3Description: Package Specification; ComponentLink3URL: http://cds.linear.com/docs/en/packaging/05081661_F_MS.pdf
footprint LT-MS-10_N (SOP, 10-Leads, Body 3.1x3.1mm, Pitch 0.5mm, IPC Medium Density)
footprint LT-MS-10_L (SOP, 10-Leads, Body 3.1x3.1mm, Pitch 0.5mm, IPC High Density)
footprint LT-MS-10_M (SOP, 10-Leads, Body 3.1x3.1mm, Pitch 0.5mm, IPC Low Density)
pins: 1 BAT (in) "Battery Sense Input. A precision internal resistor divider on this pin sets the final float voltage. The resistor divider is disconnected in sleep mode to reduce the current drain on the battery. A bypass capacitor of 10uF (See Datasheet)", 2 NTC (in) "Thermistor Interface Input. A 10kohm Dale Curve 2 NTC thermistor (or other 10kohm NTC thermistor with a room temperature beta of around 3400) is connected from this pin to ground. The charge cycle will be disabled and the (See Datasheet)", 3 ~{CHRG} (hiz) "Charge Status Open-Drain Output. When the battery is charging, the C\H\R\G\ pin is pulled low by an internal N-channel MOSFET. When the charge current drops to 10% of the full-scale current for more than 15ms, the N-channel (See Datasheet)", 4 TIMER (in) "Timer Capacitor and Constant-Voltage Mode Disable Input Pin. The timer period is set by placing a capacitor, CTIMER, to GND. The timer period is tTIMER = (CTIMER x 3 hours)/(0.1uF). Shorting the TIMER pin to GND will disable (See Datasheet)", 5 GND (power) "Ground.", 6 PROG (in) "Charge Current Program and Shutdown Input Pin. The charge current is programmed by connecting a resistor, RPROG to ground. The charge current is IBAT = (VPROG • 800ohm)/(RPROG • RSENSE). The IC can be forced i(See Datasheet)", 7 DRV (hiz) "Drive Output Pin for the P-Channel MOSFET or PNP Transistor. The impedance is high at this pin, therefore, if a PNP pass transistor is used, it must have high gain.", 8 VCC (power) "Positive Input Supply Voltage. VCC can range from 4.5V to 10V. Bypass this pin with a 1uF capacitor. When VBAT is within 54mV of VCC, the LTC4050 is forced into sleep mode, dropping ICC to 5uA.", 9 SENSE (in) "Current Sense Input. A sense resistor, RSENSE, must be connected from VCC to the SENSE pin. Select a resistor value that will develop approximately 100mV at the programmed full-scale charge current.", 10 ~{ACPR} (hiz) "Wall Adapter Present Output. When the input voltage (wall adaptor) is applied to the LTC4050, this pin is pulled to ground by an internal N-channel MOSFET that is capable of sinking 5mA suitable for driving an external LED."